# Altium schematic symbol library 100SP1T1B1M2QEH.SchLib: 2 symbols
Pins are listed as number, name and electrical type; pins without a type are passive.

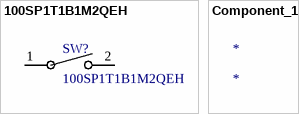
[diagram p0: symbols 100SP1T1B1M2QEH to Component_1]

## 100SP1T1B1M2QEH
designator SW?
No Description Available; Mfr_Name: E-Switch; Copyright: Copyright (C) 2023 Ultra Librarian. All rights reserved.; Manufacturer_Part_Number: 100SP1T1B1M2QEH
pins: 1, 2

## Component_1
designator *